# EAGLE library part ESP32DEVKITV1 (library ESP32-DEVKITV1)
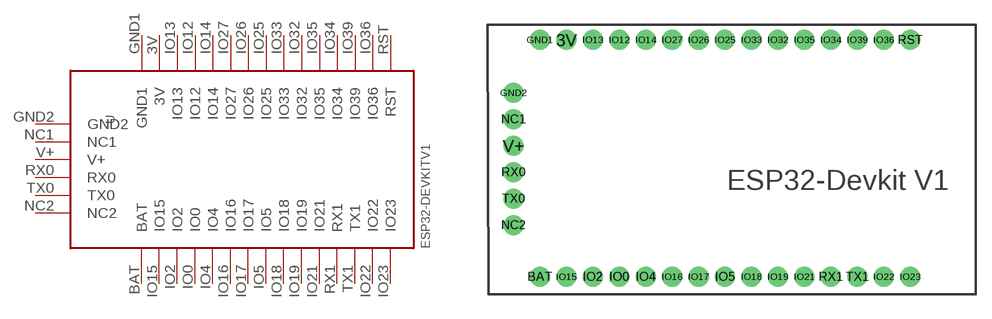
[diagram p0: symbol with the pads of ESP32-DEVKITV1; footprint ESP32-DEVKITV1]

Designator prefix -

## ESP32DEVKITV1  [ESP32-DEVKITV1]
3V  3V
BAT  BAT
GND1  GND1
GND2  GND2
IO0  IO0
IO2  IO2
IO4  IO4
IO5  IO5
IO12  IO12
IO13  IO13
IO14  IO14
IO15  IO15
IO16  IO16
IO17  IO17
IO18  IO18
IO19  IO19
IO21  IO21
IO22  IO22
IO23  IO23
IO25  IO25
IO26  IO26
IO27  IO27
IO32  IO32
IO33  IO33
IO34  IO34
IO35  IO35
IO36  IO36
IO39  IO39
NC1  NC1
NC2  NC2
RST  RST
RX0  RX0
RX1  RX1
TX0  TX0
TX1  TX1
V+  V+

## Footprint ESP32-DEVKITV1 (pad centres in mm)
drill 1 pad 1.93: 3V -20.33,12.627; BAT -22.87,-10.111; GND1 -22.87,12.627; GND2 -25.41,7.547; IO0 -15.25,-10.111; IO2 -17.79,-10.111; IO4 -12.71,-10.111; IO5 -5.09,-10.111; IO12 -15.25,12.627; IO13 -17.79,12.627; IO14 -12.71,12.627; IO15 -20.33,-10.111; IO16 -10.17,-10.111; IO17 -7.63,-10.111; IO18 -2.55,-10.111; IO19 -0.01,-10.111; IO21 2.53,-10.111; IO22 10.15,-10.111; IO23 12.69,-10.111; IO25 -5.09,12.627; IO26 -7.63,12.627; IO27 -10.17,12.627; IO32 -0.01,12.627; IO33 -2.55,12.627; IO34 5.07,12.627; IO35 2.53,12.627; IO36 10.15,12.627; IO39 7.61,12.627; NC1 -25.41,5.007; NC2 -25.41,-5.153; RST 12.69,12.627; RX0 -25.41,-0.073; RX1 5.07,-10.111; TX0 -25.41,-2.613; TX1 7.61,-10.111; V+ -25.41,2.467